# EAGLE library part RJ12 (library Header and Connector)
RJ12 6P6C Connector Created by: Wai Weng
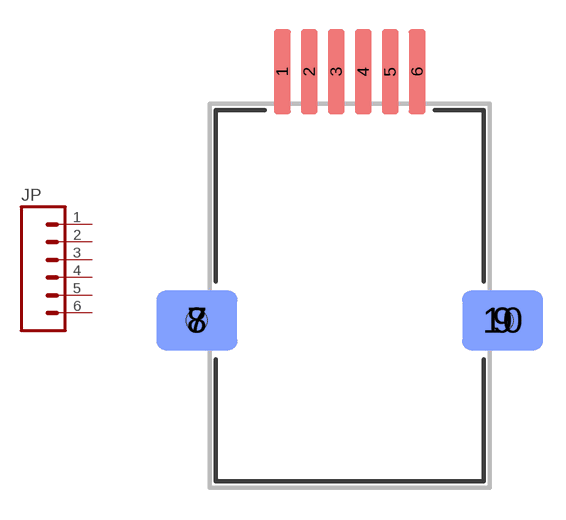
[diagram p37: symbol with the pads of RJ12; footprint RJ12]

Designator prefix JP

## RJ12 (DESC: RJ12 6P6C RA; VALUE: 6 Ways)  [RJ12]
1  1  pas
2  2  pas
3  3  pas
4  4  pas
5  5  pas
6  6  pas

## Footprint RJ12 (pad centres in mm)
RJ12 6P6C Connector Created by: Wai Weng
smd 0.8 x 4: 1 -3.175,10.55; 2 -1.905,10.55; 3 -0.635,10.55; 4 0.635,10.55; 5 1.905,10.55; 6 3.175,10.55
smd 3.8 x 2.8: 7 -7.2,-1.17; 9 7.2,-1.17
smd 3.8 x 2.8 bottom: 8 -7.2,-1.17; 10 7.2,-1.17
hole 1 at -7.2,-1.17
hole 1 at 7.2,-1.17